# Altium schematic symbol library SCH - CONNECTORS - AMPHENOL - M12A-04PMMR-SF7003.SCHLIB: 1 symbol
Pins are listed as number, name and electrical type; pins without a type are passive.

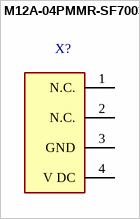
[diagram p0: symbol M12A-04PMMR-SF7003]

## M12A-04PMMR-SF7003
designator X?
pins: 1 N.C., 2 N.C., 3 GND (power), 4 V DC (power)